# Altium schematic symbol library SCH - RF - BALUN - TTM BD3150L50100AHF.SchLib: 1 symbol
Pins are listed as number, name and electrical type; pins without a type are passive.

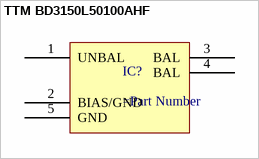
[diagram p0: symbol TTM BD3150L50100AHF]

## TTM BD3150L50100AHF
designator IC?
pins: 1 UNBAL, 2 BIAS/GND, 3 BAL, 4 BAL, 5 GND